# Altium footprint library sc_usercreated.PCBLIB: 2 footprints
Each footprint in its own frame and in the unit in brackets; x right, y up, seen from the top. Pads: shape width x height; smd on the part's side, far side on the other; paste and mask are expansions set on the pad; w line width, h text height; cw(c..) or ccw(c..) is an arc to the next point about the centre after c.
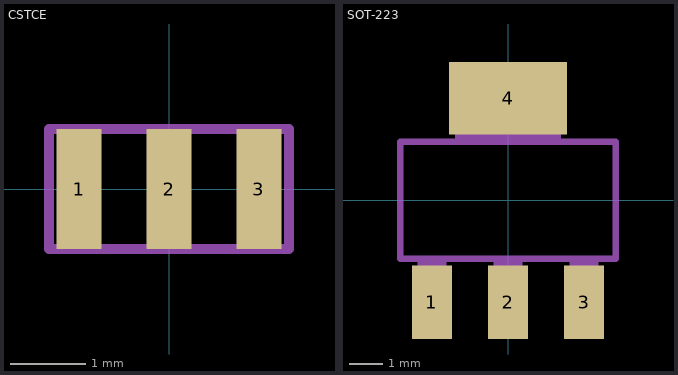
[diagram p0: the footprints below, top view; thin cyan lines are the x and y axes]

## CSTCE [mm]
pads (3):
  rect 0.6x1.6 smd: 1(-1.2,0) 2(0,0) 3(1.2,0)
tPlace:
  lines w0.127: -1.6,-0.8 -1.6,0.8 1.6,0.8 1.6,-0.8 -1.6,-0.8

## SOT-223 [mm]
pads (4):
  rect 1.219x2.235 smd: 1(-2.311,-3.099) 2(0,-3.099) 3(2.311,-3.099)
  rect 3.6x2.2 smd: 4(0,3.099)
tDocu:
  region: -1.6,1.803 -1.6,3.658 1.6,3.658 1.6,1.803
  region: -0.432,-3.658 -0.432,-1.803 0.432,-1.803 0.432,-3.658
  region: -2.743,-3.658 -2.743,-1.803 -1.88,-1.803 -1.88,-3.658
  region: 1.88,-3.658 1.88,-1.803 2.743,-1.803 2.743,-3.658
  region: -1.6,1.803 -1.6,3.658 1.6,3.658 1.6,1.803
  region: -0.432,-3.658 -0.432,-1.803 0.432,-1.803 0.432,-3.658
  region: -2.743,-3.658 -2.743,-1.803 -1.88,-1.803 -1.88,-3.658
  region: 1.88,-3.658 1.88,-1.803 2.743,-1.803 2.743,-3.658
tPlace:
  lines w0.203: -3.277,-1.778 3.277,-1.778 3.277,1.778 -3.277,1.778 -3.277,-1.778